# EAGLE library part ADS7812 (library burr-brown)
Low-Power, Serial 12-Bit Sampling ADC
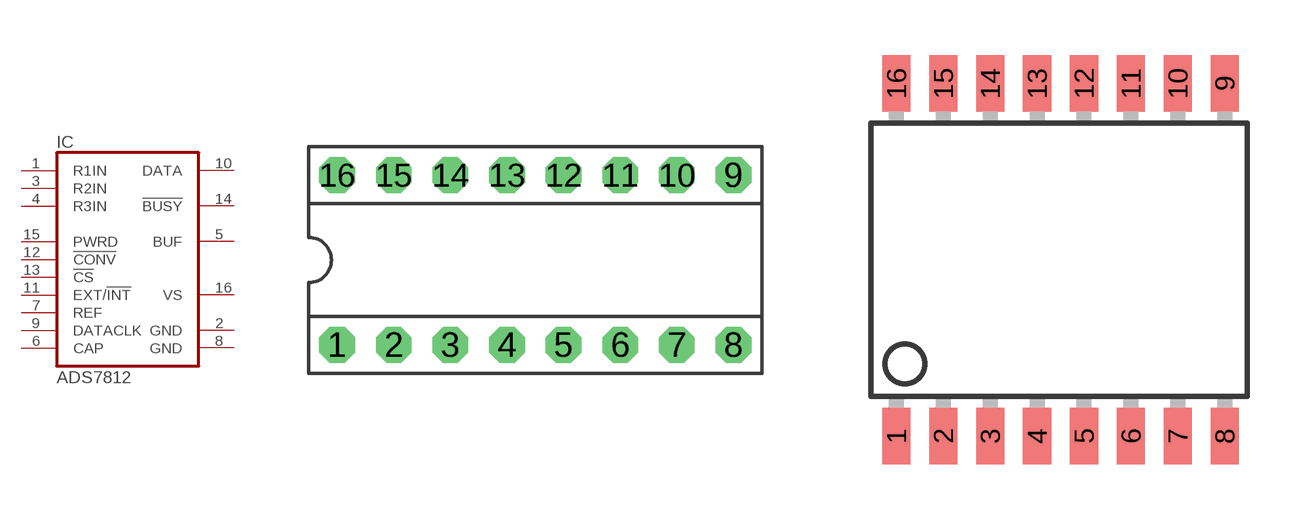
[diagram p144: symbol with the pads of DIL16; footprints DIL16, SO16-1]

Designator prefix IC

## ADS7812P (MF: TEXAS INSTRUMENT CONNECTORS; MPN: ADS7812P; OC_FARNELL: 1509513; OC_NEWARK: 74C7091)  [DIL16]
1  R1IN  in
2  GND  pwr
3  R2IN  in
4  R3IN  in
5  BUF  out
6  CAP  pas
7  REF
8  GND  pwr
9  DATACLK
10  DATA  out
11  EXT/!INT  in
12  !CONV  in
13  !CS  in
14  !BUSY  out
15  PWRD  in
16  VS  pwr

## ADS7812U (MF: TEXAS INSTRUMENT CONNECTORS; MPN: ADS7812U; OC_FARNELL: 1459274; OC_NEWARK: 14M8148)  [SO16-1]
Pads as for DIL16

## Footprint DIL16 (pad centres in mm)
Dual In Line
drill 0.813 pad 1.6 octagon: 1 -8.89,-3.81; 2 -6.35,-3.81; 3 -3.81,-3.81; 4 -1.27,-3.81; 5 1.27,-3.81; 6 3.81,-3.81; 7 6.35,-3.81; 8 8.89,-3.81; 9 8.89,3.81; 10 6.35,3.81; 11 3.81,3.81; 12 1.27,3.81; 13 -1.27,3.81; 14 -3.81,3.81; 15 -6.35,3.81; 16 -8.89,3.81

## Footprint SO16-1 (pad centres in mm)
Small Outline Package
smd 0.762 x 1.524: 1 -4.445,-4.775; 2 -3.175,-4.775; 3 -1.905,-4.775; 4 -0.635,-4.775; 5 0.635,-4.775; 6 1.905,-4.775; 7 3.175,-4.775; 8 4.445,-4.775; 9 4.445,4.775; 10 3.175,4.775; 11 1.905,4.775; 12 0.635,4.775; 13 -0.635,4.775; 14 -1.905,4.775; 15 -3.175,4.775; 16 -4.445,4.775